# Altium footprint library IPC-7355 QFP_Shrink_Rect_50P_Side_M.PcbLib: 14 footprints
Each footprint in its own frame and in the unit in brackets; x right, y up, seen from the top. Pads: shape width x height; smd on the part's side, far side on the other; paste and mask are expansions set on the pad; w line width, h text height; cw(c..) or ccw(c..) is an arc to the next point about the centre after c.
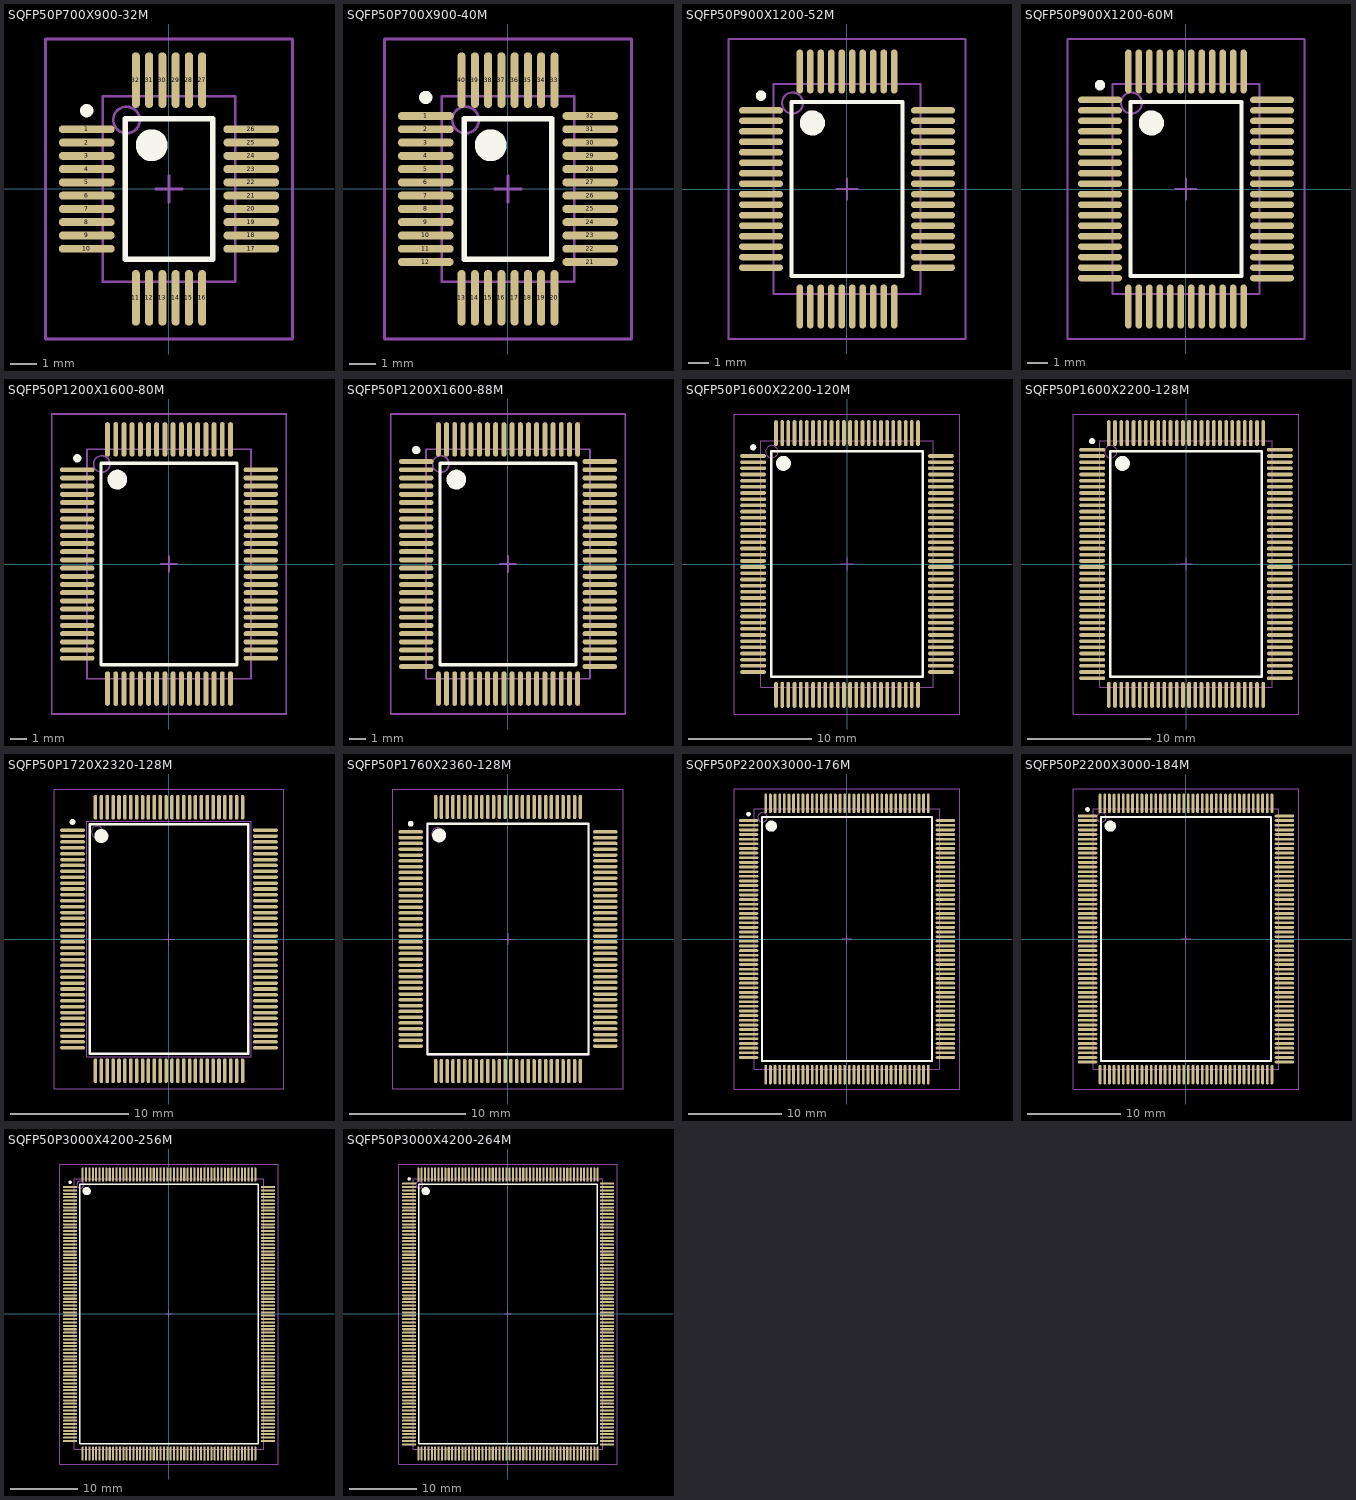
[diagram p0: the footprints below, top view; thin cyan lines are the x and y axes]

## SQFP50P700X900-32M [mm] "Shrink QFP, 32-Leads, Body 7x5 mm, Pitch 0.5mm, IPC Low Density"
height 1.7
pads (32):
  oval 2.1x0.3 smd: 1(-3.1,2.25) 2(-3.1,1.75) 3(-3.1,1.25) 4(-3.1,0.75) 5(-3.1,0.25) 6(-3.1,-0.25) 7(-3.1,-0.75) 8(-3.1,-1.25) 9(-3.1,-1.75) 10(-3.1,-2.25) 17(3.1,-2.25) 18(3.1,-1.75) 19(3.1,-1.25) 20(3.1,-0.75) 21(3.1,-0.25) 22(3.1,0.25) 23(3.1,0.75) 24(3.1,1.25) 25(3.1,1.75) 26(3.1,2.25)
  oval 0.3x2.1 smd: 11(-1.25,-4.1) 12(-0.75,-4.1) 13(-0.25,-4.1) 14(0.25,-4.1) 15(0.75,-4.1) 16(1.25,-4.1) 27(1.25,4.1) 28(0.75,4.1) 29(0.25,4.1) 30(-0.25,4.1) 31(-0.75,4.1) 32(-1.25,4.1)
Top Overlay:
  circle w0.6: c-0.65,1.65 r0.3
  circle w0.25: c-3.1,2.95 r0.125
  lines w0.2: -1.65,-2.65 1.65,-2.65 1.65,2.65 -1.65,2.65 -1.65,-2.65
Mechanical 13:
  circle w0.1: c-1.6,2.6 r0.5
  lines w0.1: -2.5,-3.5 2.5,-3.5 2.5,3.5 -2.5,3.5 -2.5,-3.5
Mechanical 15:
  lines w0.1: -0.5,0 0.5,0 ; 0,-0.5 0,0.5 ; -4.65,-5.65 4.65,-5.65 4.65,5.65 -4.65,5.65 -4.65,-5.65
3D body: height 1.7, standoff 0, extent -2.5,-3.5 2.5,3.5

## SQFP50P700X900-40M [mm] "Shrink QFP, 40-Leads, Body 7x5 mm, Pitch 0.5mm, IPC Low Density"
height 1.7
pads (40):
  oval 2.1x0.3 smd: 1(-3.1,2.75) 2(-3.1,2.25) 3(-3.1,1.75) 4(-3.1,1.25) 5(-3.1,0.75) 6(-3.1,0.25) 7(-3.1,-0.25) 8(-3.1,-0.75) 9(-3.1,-1.25) 10(-3.1,-1.75) 11(-3.1,-2.25) 12(-3.1,-2.75) 21(3.1,-2.75) 22(3.1,-2.25) 23(3.1,-1.75) 24(3.1,-1.25) 25(3.1,-0.75) 26(3.1,-0.25) 27(3.1,0.25) 28(3.1,0.75) 29(3.1,1.25) 30(3.1,1.75) 31(3.1,2.25) 32(3.1,2.75)
  oval 0.3x2.1 smd: 13(-1.75,-4.1) 14(-1.25,-4.1) 15(-0.75,-4.1) 16(-0.25,-4.1) 17(0.25,-4.1) 18(0.75,-4.1) 19(1.25,-4.1) 20(1.75,-4.1) 33(1.75,4.1) 34(1.25,4.1) 35(0.75,4.1) 36(0.25,4.1) 37(-0.25,4.1) 38(-0.75,4.1) 39(-1.25,4.1) 40(-1.75,4.1)
Top Overlay:
  circle w0.6: c-0.65,1.65 r0.3
  circle w0.25: c-3.1,3.45 r0.125
  lines w0.2: -1.65,-2.65 1.65,-2.65 1.65,2.65 -1.65,2.65 -1.65,-2.65
Mechanical 13:
  circle w0.1: c-1.6,2.6 r0.5
  lines w0.1: -2.5,-3.5 2.5,-3.5 2.5,3.5 -2.5,3.5 -2.5,-3.5
Mechanical 15:
  lines w0.1: -0.5,0 0.5,0 ; 0,-0.5 0,0.5 ; -4.65,-5.65 4.65,-5.65 4.65,5.65 -4.65,5.65 -4.65,-5.65
3D body: height 1.7, standoff 0, extent -2.5,-3.5 2.5,3.5

## SQFP50P900X1200-52M [mm] "Shrink QFP, 52-Leads, Body 10x7 mm, Pitch 0.5mm, IPC Low Density"
height 2.2
pads (52):
  oval 2.1x0.3 smd: 1(-4.1,3.75) 2(-4.1,3.25) 3(-4.1,2.75) 4(-4.1,2.25) 5(-4.1,1.75) 6(-4.1,1.25) 7(-4.1,0.75) 8(-4.1,0.25) 9(-4.1,-0.25) 10(-4.1,-0.75) 11(-4.1,-1.25) 12(-4.1,-1.75) 13(-4.1,-2.25) 14(-4.1,-2.75) 15(-4.1,-3.25) 16(-4.1,-3.75) 27(4.1,-3.75) 28(4.1,-3.25) 29(4.1,-2.75) 30(4.1,-2.25) 31(4.1,-1.75) 32(4.1,-1.25) 33(4.1,-0.75) 34(4.1,-0.25) 35(4.1,0.25) 36(4.1,0.75) 37(4.1,1.25) 38(4.1,1.75) 39(4.1,2.25) 40(4.1,2.75) 41(4.1,3.25) 42(4.1,3.75)
  oval 0.3x2.1 smd: 17(-2.25,-5.6) 18(-1.75,-5.6) 19(-1.25,-5.6) 20(-0.75,-5.6) 21(-0.25,-5.6) 22(0.25,-5.6) 23(0.75,-5.6) 24(1.25,-5.6) 25(1.75,-5.6) 26(2.25,-5.6) 43(2.25,5.6) 44(1.75,5.6) 45(1.25,5.6) 46(0.75,5.6) 47(0.25,5.6) 48(-0.25,5.6) 49(-0.75,5.6) 50(-1.25,5.6) 51(-1.75,5.6) 52(-2.25,5.6)
Top Overlay:
  circle w0.6: c-1.65,3.15 r0.3
  circle w0.25: c-4.1,4.45 r0.125
  lines w0.2: -2.65,-4.15 2.65,-4.15 2.65,4.15 -2.65,4.15 -2.65,-4.15
Mechanical 13:
  circle w0.1: c-2.6,4.1 r0.5
  lines w0.1: -3.5,-5 3.5,-5 3.5,5 -3.5,5 -3.5,-5
Mechanical 15:
  lines w0.1: -0.5,0 0.5,0 ; 0,-0.5 0,0.5 ; -5.65,-7.15 5.65,-7.15 5.65,7.15 -5.65,7.15 -5.65,-7.15
3D body: height 2.2, standoff 0, extent -3.5,-5 3.5,5

## SQFP50P900X1200-60M [mm] "Shrink QFP, 60-Leads, Body 10x7 mm, Pitch 0.5mm, IPC Low Density"
height 2.2
pads (60):
  oval 2.1x0.3 smd: 1(-4.1,4.25) 2(-4.1,3.75) 3(-4.1,3.25) 4(-4.1,2.75) 5(-4.1,2.25) 6(-4.1,1.75) 7(-4.1,1.25) 8(-4.1,0.75) 9(-4.1,0.25) 10(-4.1,-0.25) 11(-4.1,-0.75) 12(-4.1,-1.25) 13(-4.1,-1.75) 14(-4.1,-2.25) 15(-4.1,-2.75) 16(-4.1,-3.25) 17(-4.1,-3.75) 18(-4.1,-4.25) 31(4.1,-4.25) 32(4.1,-3.75) 33(4.1,-3.25) 34(4.1,-2.75) 35(4.1,-2.25) 36(4.1,-1.75) 37(4.1,-1.25) 38(4.1,-0.75) 39(4.1,-0.25) 40(4.1,0.25) 41(4.1,0.75) 42(4.1,1.25) 43(4.1,1.75) 44(4.1,2.25) 45(4.1,2.75) 46(4.1,3.25) 47(4.1,3.75) 48(4.1,4.25)
  oval 0.3x2.1 smd: 19(-2.75,-5.6) 20(-2.25,-5.6) 21(-1.75,-5.6) 22(-1.25,-5.6) 23(-0.75,-5.6) 24(-0.25,-5.6) 25(0.25,-5.6) 26(0.75,-5.6) 27(1.25,-5.6) 28(1.75,-5.6) 29(2.25,-5.6) 30(2.75,-5.6) 49(2.75,5.6) 50(2.25,5.6) 51(1.75,5.6) 52(1.25,5.6) 53(0.75,5.6) 54(0.25,5.6) 55(-0.25,5.6) 56(-0.75,5.6) 57(-1.25,5.6) 58(-1.75,5.6) 59(-2.25,5.6) 60(-2.75,5.6)
Top Overlay:
  circle w0.6: c-1.65,3.15 r0.3
  circle w0.25: c-4.1,4.95 r0.125
  lines w0.2: -2.65,-4.15 2.65,-4.15 2.65,4.15 -2.65,4.15 -2.65,-4.15
Mechanical 13:
  circle w0.1: c-2.6,4.1 r0.5
  lines w0.1: -3.5,-5 3.5,-5 3.5,5 -3.5,5 -3.5,-5
Mechanical 15:
  lines w0.1: -0.5,0 0.5,0 ; 0,-0.5 0,0.5 ; -5.65,-7.15 5.65,-7.15 5.65,7.15 -5.65,7.15 -5.65,-7.15
3D body: height 2.2, standoff 0, extent -3.5,-5 3.5,5

## SQFP50P1200X1600-80M [mm] "Shrink QFP, 80-Leads, Body 14x10 mm, Pitch 0.5mm, IPC Low Density"
height 2.2
pads (80):
  oval 2.1x0.3 smd: 1(-5.6,5.75) 2(-5.6,5.25) 3(-5.6,4.75) 4(-5.6,4.25) 5(-5.6,3.75) 6(-5.6,3.25) 7(-5.6,2.75) 8(-5.6,2.25) 9(-5.6,1.75) 10(-5.6,1.25) 11(-5.6,0.75) 12(-5.6,0.25) 13(-5.6,-0.25) 14(-5.6,-0.75) 15(-5.6,-1.25) 16(-5.6,-1.75) 17(-5.6,-2.25) 18(-5.6,-2.75) 19(-5.6,-3.25) 20(-5.6,-3.75) 21(-5.6,-4.25) 22(-5.6,-4.75) 23(-5.6,-5.25) 24(-5.6,-5.75) 41(5.6,-5.75) 42(5.6,-5.25) 43(5.6,-4.75) 44(5.6,-4.25) 45(5.6,-3.75) 46(5.6,-3.25) 47(5.6,-2.75) 48(5.6,-2.25) 49(5.6,-1.75) 50(5.6,-1.25) 51(5.6,-0.75) 52(5.6,-0.25) 53(5.6,0.25) 54(5.6,0.75) 55(5.6,1.25) 56(5.6,1.75) 57(5.6,2.25) 58(5.6,2.75) 59(5.6,3.25) 60(5.6,3.75) 61(5.6,4.25) 62(5.6,4.75) 63(5.6,5.25) 64(5.6,5.75)
  oval 0.3x2.1 smd: 25(-3.75,-7.6) 26(-3.25,-7.6) 27(-2.75,-7.6) 28(-2.25,-7.6) 29(-1.75,-7.6) 30(-1.25,-7.6) 31(-0.75,-7.6) 32(-0.25,-7.6) 33(0.25,-7.6) 34(0.75,-7.6) 35(1.25,-7.6) 36(1.75,-7.6) 37(2.25,-7.6) 38(2.75,-7.6) 39(3.25,-7.6) 40(3.75,-7.6) 65(3.75,7.6) 66(3.25,7.6) 67(2.75,7.6) 68(2.25,7.6) 69(1.75,7.6) 70(1.25,7.6) 71(0.75,7.6) 72(0.25,7.6) 73(-0.25,7.6) 74(-0.75,7.6) 75(-1.25,7.6) 76(-1.75,7.6) 77(-2.25,7.6) 78(-2.75,7.6) 79(-3.25,7.6) 80(-3.75,7.6)
Top Overlay:
  circle w0.6: c-3.15,5.15 r0.3
  circle w0.25: c-5.6,6.45 r0.125
  lines w0.2: -4.15,-6.15 4.15,-6.15 4.15,6.15 -4.15,6.15 -4.15,-6.15
Mechanical 13:
  circle w0.1: c-4.1,6.1 r0.5
  lines w0.1: -5,-7 5,-7 5,7 -5,7 -5,-7
Mechanical 15:
  lines w0.1: -0.5,0 0.5,0 ; 0,-0.5 0,0.5 ; -7.15,-9.15 7.15,-9.15 7.15,9.15 -7.15,9.15 -7.15,-9.15
3D body: height 2.2, standoff 0, extent -5,-7 5,7

## SQFP50P1200X1600-88M [mm] "Shrink QFP, 88-Leads, Body 14x10 mm, Pitch 0.5mm, IPC Low Density"
height 2.2
pads (88):
  oval 2.1x0.3 smd: 1(-5.6,6.25) 2(-5.6,5.75) 3(-5.6,5.25) 4(-5.6,4.75) 5(-5.6,4.25) 6(-5.6,3.75) 7(-5.6,3.25) 8(-5.6,2.75) 9(-5.6,2.25) 10(-5.6,1.75) 11(-5.6,1.25) 12(-5.6,0.75) 13(-5.6,0.25) 14(-5.6,-0.25) 15(-5.6,-0.75) 16(-5.6,-1.25) 17(-5.6,-1.75) 18(-5.6,-2.25) 19(-5.6,-2.75) 20(-5.6,-3.25) 21(-5.6,-3.75) 22(-5.6,-4.25) 23(-5.6,-4.75) 24(-5.6,-5.25) 25(-5.6,-5.75) 26(-5.6,-6.25) 45(5.6,-6.25) 46(5.6,-5.75) 47(5.6,-5.25) 48(5.6,-4.75) 49(5.6,-4.25) 50(5.6,-3.75) 51(5.6,-3.25) 52(5.6,-2.75) 53(5.6,-2.25) 54(5.6,-1.75) 55(5.6,-1.25) 56(5.6,-0.75) 57(5.6,-0.25) 58(5.6,0.25) 59(5.6,0.75) 60(5.6,1.25) 61(5.6,1.75) 62(5.6,2.25) 63(5.6,2.75) 64(5.6,3.25) 65(5.6,3.75) 66(5.6,4.25) 67(5.6,4.75) 68(5.6,5.25) 69(5.6,5.75) 70(5.6,6.25)
  oval 0.3x2.1 smd: 27(-4.25,-7.6) 28(-3.75,-7.6) 29(-3.25,-7.6) 30(-2.75,-7.6) 31(-2.25,-7.6) 32(-1.75,-7.6) 33(-1.25,-7.6) 34(-0.75,-7.6) 35(-0.25,-7.6) 36(0.25,-7.6) 37(0.75,-7.6) 38(1.25,-7.6) 39(1.75,-7.6) 40(2.25,-7.6) 41(2.75,-7.6) 42(3.25,-7.6) 43(3.75,-7.6) 44(4.25,-7.6) 71(4.25,7.6) 72(3.75,7.6) 73(3.25,7.6) 74(2.75,7.6) 75(2.25,7.6) 76(1.75,7.6) 77(1.25,7.6) 78(0.75,7.6) 79(0.25,7.6) 80(-0.25,7.6) 81(-0.75,7.6) 82(-1.25,7.6) 83(-1.75,7.6) 84(-2.25,7.6) 85(-2.75,7.6) 86(-3.25,7.6) 87(-3.75,7.6) 88(-4.25,7.6)
Top Overlay:
  circle w0.6: c-3.15,5.15 r0.3
  circle w0.25: c-5.6,6.95 r0.125
  lines w0.2: -4.15,-6.15 4.15,-6.15 4.15,6.15 -4.15,6.15 -4.15,-6.15
Mechanical 13:
  circle w0.1: c-4.1,6.1 r0.5
  lines w0.1: -5,-7 5,-7 5,7 -5,7 -5,-7
Mechanical 15:
  lines w0.1: -0.5,0 0.5,0 ; 0,-0.5 0,0.5 ; -7.15,-9.15 7.15,-9.15 7.15,9.15 -7.15,9.15 -7.15,-9.15
3D body: height 2.2, standoff 0, extent -5,-7 5,7

## SQFP50P1600X2200-120M [mm] "Shrink QFP, 120-Leads, Body 20x14 mm, Pitch 0.5mm, IPC Low Density"
height 2.2
pads (120):
  oval 2.1x0.3 smd: 1(-7.6,8.75) 2(-7.6,8.25) 3(-7.6,7.75) 4(-7.6,7.25) 5(-7.6,6.75) 6(-7.6,6.25) 7(-7.6,5.75) 8(-7.6,5.25) 9(-7.6,4.75) 10(-7.6,4.25) 11(-7.6,3.75) 12(-7.6,3.25) 13(-7.6,2.75) 14(-7.6,2.25) 15(-7.6,1.75) 16(-7.6,1.25) 17(-7.6,0.75) 18(-7.6,0.25) 19(-7.6,-0.25) 20(-7.6,-0.75) 21(-7.6,-1.25) 22(-7.6,-1.75) 23(-7.6,-2.25) 24(-7.6,-2.75) 25(-7.6,-3.25) 26(-7.6,-3.75) 27(-7.6,-4.25) 28(-7.6,-4.75) 29(-7.6,-5.25) 30(-7.6,-5.75) 31(-7.6,-6.25) 32(-7.6,-6.75) 33(-7.6,-7.25) 34(-7.6,-7.75) 35(-7.6,-8.25) 36(-7.6,-8.75) 61(7.6,-8.75) 62(7.6,-8.25) 63(7.6,-7.75) 64(7.6,-7.25) 65(7.6,-6.75) 66(7.6,-6.25) 67(7.6,-5.75) 68(7.6,-5.25) 69(7.6,-4.75) 70(7.6,-4.25) 71(7.6,-3.75) 72(7.6,-3.25) 73(7.6,-2.75) 74(7.6,-2.25) 75(7.6,-1.75) 76(7.6,-1.25) 77(7.6,-0.75) 78(7.6,-0.25) 79(7.6,0.25) 80(7.6,0.75) 81(7.6,1.25) 82(7.6,1.75) 83(7.6,2.25) 84(7.6,2.75) 85(7.6,3.25) 86(7.6,3.75) 87(7.6,4.25) 88(7.6,4.75) 89(7.6,5.25) 90(7.6,5.75) 91(7.6,6.25) 92(7.6,6.75) 93(7.6,7.25) 94(7.6,7.75) 95(7.6,8.25) 96(7.6,8.75)
  oval 0.3x2.1 smd: 37(-5.75,-10.6) 38(-5.25,-10.6) 39(-4.75,-10.6) 40(-4.25,-10.6) 41(-3.75,-10.6) 42(-3.25,-10.6) 43(-2.75,-10.6) 44(-2.25,-10.6) 45(-1.75,-10.6) 46(-1.25,-10.6) 47(-0.75,-10.6) 48(-0.25,-10.6) 49(0.25,-10.6) 50(0.75,-10.6) 51(1.25,-10.6) 52(1.75,-10.6) 53(2.25,-10.6) 54(2.75,-10.6) 55(3.25,-10.6) 56(3.75,-10.6) 57(4.25,-10.6) 58(4.75,-10.6) 59(5.25,-10.6) 60(5.75,-10.6) 97(5.75,10.6) 98(5.25,10.6) 99(4.75,10.6) 100(4.25,10.6) 101(3.75,10.6) 102(3.25,10.6) 103(2.75,10.6) 104(2.25,10.6) 105(1.75,10.6) 106(1.25,10.6) 107(0.75,10.6) 108(0.25,10.6) 109(-0.25,10.6) 110(-0.75,10.6) 111(-1.25,10.6) 112(-1.75,10.6) 113(-2.25,10.6) 114(-2.75,10.6) 115(-3.25,10.6) 116(-3.75,10.6) 117(-4.25,10.6) 118(-4.75,10.6) 119(-5.25,10.6) 120(-5.75,10.6)
Top Overlay:
  circle w0.6: c-5.15,8.15 r0.3
  circle w0.25: c-7.6,9.45 r0.125
  lines w0.2: -6.15,-9.15 6.15,-9.15 6.15,9.15 -6.15,9.15 -6.15,-9.15
Mechanical 13:
  circle w0.1: c-6.1,9.1 r0.5
  lines w0.1: -7,-10 7,-10 7,10 -7,10 -7,-10
Mechanical 15:
  lines w0.1: -0.5,0 0.5,0 ; 0,-0.5 0,0.5 ; -9.15,-12.15 9.15,-12.15 9.15,12.15 -9.15,12.15 -9.15,-12.15
3D body: height 2.2, standoff 0, extent -7,-10 7,10

## SQFP50P1600X2200-128M [mm] "Shrink QFP, 128-Leads, Body 20x14 mm, Pitch 0.5mm, IPC Low Density"
height 2.2
pads (128):
  oval 2.1x0.3 smd: 1(-7.6,9.25) 2(-7.6,8.75) 3(-7.6,8.25) 4(-7.6,7.75) 5(-7.6,7.25) 6(-7.6,6.75) 7(-7.6,6.25) 8(-7.6,5.75) 9(-7.6,5.25) 10(-7.6,4.75) 11(-7.6,4.25) 12(-7.6,3.75) 13(-7.6,3.25) 14(-7.6,2.75) 15(-7.6,2.25) 16(-7.6,1.75) 17(-7.6,1.25) 18(-7.6,0.75) 19(-7.6,0.25) 20(-7.6,-0.25) 21(-7.6,-0.75) 22(-7.6,-1.25) 23(-7.6,-1.75) 24(-7.6,-2.25) 25(-7.6,-2.75) 26(-7.6,-3.25) 27(-7.6,-3.75) 28(-7.6,-4.25) 29(-7.6,-4.75) 30(-7.6,-5.25) 31(-7.6,-5.75) 32(-7.6,-6.25) 33(-7.6,-6.75) 34(-7.6,-7.25) 35(-7.6,-7.75) 36(-7.6,-8.25) 37(-7.6,-8.75) 38(-7.6,-9.25) 65(7.6,-9.25) 66(7.6,-8.75) 67(7.6,-8.25) 68(7.6,-7.75) 69(7.6,-7.25) 70(7.6,-6.75) 71(7.6,-6.25) 72(7.6,-5.75) 73(7.6,-5.25) 74(7.6,-4.75) 75(7.6,-4.25) 76(7.6,-3.75) 77(7.6,-3.25) 78(7.6,-2.75) 79(7.6,-2.25) 80(7.6,-1.75) 81(7.6,-1.25) 82(7.6,-0.75) 83(7.6,-0.25) 84(7.6,0.25) 85(7.6,0.75) 86(7.6,1.25) 87(7.6,1.75) 88(7.6,2.25) 89(7.6,2.75) 90(7.6,3.25) 91(7.6,3.75) 92(7.6,4.25) 93(7.6,4.75) 94(7.6,5.25) 95(7.6,5.75) 96(7.6,6.25) 97(7.6,6.75) 98(7.6,7.25) 99(7.6,7.75) 100(7.6,8.25) 101(7.6,8.75) 102(7.6,9.25)
  oval 0.3x2.1 smd: 39(-6.25,-10.6) 40(-5.75,-10.6) 41(-5.25,-10.6) 42(-4.75,-10.6) 43(-4.25,-10.6) 44(-3.75,-10.6) 45(-3.25,-10.6) 46(-2.75,-10.6) 47(-2.25,-10.6) 48(-1.75,-10.6) 49(-1.25,-10.6) 50(-0.75,-10.6) 51(-0.25,-10.6) 52(0.25,-10.6) 53(0.75,-10.6) 54(1.25,-10.6) 55(1.75,-10.6) 56(2.25,-10.6) 57(2.75,-10.6) 58(3.25,-10.6) 59(3.75,-10.6) 60(4.25,-10.6) 61(4.75,-10.6) 62(5.25,-10.6) 63(5.75,-10.6) 64(6.25,-10.6) 103(6.25,10.6) 104(5.75,10.6) 105(5.25,10.6) 106(4.75,10.6) 107(4.25,10.6) 108(3.75,10.6) 109(3.25,10.6) 110(2.75,10.6) 111(2.25,10.6) 112(1.75,10.6) 113(1.25,10.6) 114(0.75,10.6) 115(0.25,10.6) 116(-0.25,10.6) 117(-0.75,10.6) 118(-1.25,10.6) 119(-1.75,10.6) 120(-2.25,10.6) 121(-2.75,10.6) 122(-3.25,10.6) 123(-3.75,10.6) 124(-4.25,10.6) 125(-4.75,10.6) 126(-5.25,10.6) 127(-5.75,10.6) 128(-6.25,10.6)
Top Overlay:
  circle w0.6: c-5.15,8.15 r0.3
  circle w0.25: c-7.6,9.95 r0.125
  lines w0.2: -6.15,-9.15 6.15,-9.15 6.15,9.15 -6.15,9.15 -6.15,-9.15
Mechanical 13:
  circle w0.1: c-6.1,9.1 r0.5
  lines w0.1: -7,-10 7,-10 7,10 -7,10 -7,-10
Mechanical 15:
  lines w0.1: -0.5,0 0.5,0 ; 0,-0.5 0,0.5 ; -9.15,-12.15 9.15,-12.15 9.15,12.15 -9.15,12.15 -9.15,-12.15
3D body: height 2.2, standoff 0, extent -7,-10 7,10

## SQFP50P1720X2320-128M [mm] "Shrink QFP, 128-Leads, Body 20x14 mm, Pitch 0.5mm, IPC Low Density"
height 3
pads (128):
  oval 2.1x0.3 smd: 1(-8.2,9.25) 2(-8.2,8.75) 3(-8.2,8.25) 4(-8.2,7.75) 5(-8.2,7.25) 6(-8.2,6.75) 7(-8.2,6.25) 8(-8.2,5.75) 9(-8.2,5.25) 10(-8.2,4.75) 11(-8.2,4.25) 12(-8.2,3.75) 13(-8.2,3.25) 14(-8.2,2.75) 15(-8.2,2.25) 16(-8.2,1.75) 17(-8.2,1.25) 18(-8.2,0.75) 19(-8.2,0.25) 20(-8.2,-0.25) 21(-8.2,-0.75) 22(-8.2,-1.25) 23(-8.2,-1.75) 24(-8.2,-2.25) 25(-8.2,-2.75) 26(-8.2,-3.25) 27(-8.2,-3.75) 28(-8.2,-4.25) 29(-8.2,-4.75) 30(-8.2,-5.25) 31(-8.2,-5.75) 32(-8.2,-6.25) 33(-8.2,-6.75) 34(-8.2,-7.25) 35(-8.2,-7.75) 36(-8.2,-8.25) 37(-8.2,-8.75) 38(-8.2,-9.25) 65(8.2,-9.25) 66(8.2,-8.75) 67(8.2,-8.25) 68(8.2,-7.75) 69(8.2,-7.25) 70(8.2,-6.75) 71(8.2,-6.25) 72(8.2,-5.75) 73(8.2,-5.25) 74(8.2,-4.75) 75(8.2,-4.25) 76(8.2,-3.75) 77(8.2,-3.25) 78(8.2,-2.75) 79(8.2,-2.25) 80(8.2,-1.75) 81(8.2,-1.25) 82(8.2,-0.75) 83(8.2,-0.25) 84(8.2,0.25) 85(8.2,0.75) 86(8.2,1.25) 87(8.2,1.75) 88(8.2,2.25) 89(8.2,2.75) 90(8.2,3.25) 91(8.2,3.75) 92(8.2,4.25) 93(8.2,4.75) 94(8.2,5.25) 95(8.2,5.75) 96(8.2,6.25) 97(8.2,6.75) 98(8.2,7.25) 99(8.2,7.75) 100(8.2,8.25) 101(8.2,8.75) 102(8.2,9.25)
  oval 0.3x2.1 smd: 39(-6.25,-11.2) 40(-5.75,-11.2) 41(-5.25,-11.2) 42(-4.75,-11.2) 43(-4.25,-11.2) 44(-3.75,-11.2) 45(-3.25,-11.2) 46(-2.75,-11.2) 47(-2.25,-11.2) 48(-1.75,-11.2) 49(-1.25,-11.2) 50(-0.75,-11.2) 51(-0.25,-11.2) 52(0.25,-11.2) 53(0.75,-11.2) 54(1.25,-11.2) 55(1.75,-11.2) 56(2.25,-11.2) 57(2.75,-11.2) 58(3.25,-11.2) 59(3.75,-11.2) 60(4.25,-11.2) 61(4.75,-11.2) 62(5.25,-11.2) 63(5.75,-11.2) 64(6.25,-11.2) 103(6.25,11.2) 104(5.75,11.2) 105(5.25,11.2) 106(4.75,11.2) 107(4.25,11.2) 108(3.75,11.2) 109(3.25,11.2) 110(2.75,11.2) 111(2.25,11.2) 112(1.75,11.2) 113(1.25,11.2) 114(0.75,11.2) 115(0.25,11.2) 116(-0.25,11.2) 117(-0.75,11.2) 118(-1.25,11.2) 119(-1.75,11.2) 120(-2.25,11.2) 121(-2.75,11.2) 122(-3.25,11.2) 123(-3.75,11.2) 124(-4.25,11.2) 125(-4.75,11.2) 126(-5.25,11.2) 127(-5.75,11.2) 128(-6.25,11.2)
Top Overlay:
  circle w0.6: c-5.75,8.75 r0.3
  circle w0.25: c-8.2,9.95 r0.125
  lines w0.2: -6.75,-9.75 6.75,-9.75 6.75,9.75 -6.75,9.75 -6.75,-9.75
Mechanical 13:
  circle w0.1: c-6.1,9.1 r0.5
  lines w0.1: -7,-10 7,-10 7,10 -7,10 -7,-10
Mechanical 15:
  lines w0.1: -0.5,0 0.5,0 ; 0,-0.5 0,0.5 ; -9.75,-12.75 9.75,-12.75 9.75,12.75 -9.75,12.75 -9.75,-12.75
3D body: height 3, standoff 0, extent -7,-10 7,10

## SQFP50P1760X2360-128M [mm] "Shrink QFP, 128-Leads, Body 20x14 mm, Pitch 0.5mm, IPC Low Density"
height 2.7
pads (128):
  oval 2.1x0.3 smd: 1(-8.4,9.25) 2(-8.4,8.75) 3(-8.4,8.25) 4(-8.4,7.75) 5(-8.4,7.25) 6(-8.4,6.75) 7(-8.4,6.25) 8(-8.4,5.75) 9(-8.4,5.25) 10(-8.4,4.75) 11(-8.4,4.25) 12(-8.4,3.75) 13(-8.4,3.25) 14(-8.4,2.75) 15(-8.4,2.25) 16(-8.4,1.75) 17(-8.4,1.25) 18(-8.4,0.75) 19(-8.4,0.25) 20(-8.4,-0.25) 21(-8.4,-0.75) 22(-8.4,-1.25) 23(-8.4,-1.75) 24(-8.4,-2.25) 25(-8.4,-2.75) 26(-8.4,-3.25) 27(-8.4,-3.75) 28(-8.4,-4.25) 29(-8.4,-4.75) 30(-8.4,-5.25) 31(-8.4,-5.75) 32(-8.4,-6.25) 33(-8.4,-6.75) 34(-8.4,-7.25) 35(-8.4,-7.75) 36(-8.4,-8.25) 37(-8.4,-8.75) 38(-8.4,-9.25) 65(8.4,-9.25) 66(8.4,-8.75) 67(8.4,-8.25) 68(8.4,-7.75) 69(8.4,-7.25) 70(8.4,-6.75) 71(8.4,-6.25) 72(8.4,-5.75) 73(8.4,-5.25) 74(8.4,-4.75) 75(8.4,-4.25) 76(8.4,-3.75) 77(8.4,-3.25) 78(8.4,-2.75) 79(8.4,-2.25) 80(8.4,-1.75) 81(8.4,-1.25) 82(8.4,-0.75) 83(8.4,-0.25) 84(8.4,0.25) 85(8.4,0.75) 86(8.4,1.25) 87(8.4,1.75) 88(8.4,2.25) 89(8.4,2.75) 90(8.4,3.25) 91(8.4,3.75) 92(8.4,4.25) 93(8.4,4.75) 94(8.4,5.25) 95(8.4,5.75) 96(8.4,6.25) 97(8.4,6.75) 98(8.4,7.25) 99(8.4,7.75) 100(8.4,8.25) 101(8.4,8.75) 102(8.4,9.25)
  oval 0.3x2.1 smd: 39(-6.25,-11.4) 40(-5.75,-11.4) 41(-5.25,-11.4) 42(-4.75,-11.4) 43(-4.25,-11.4) 44(-3.75,-11.4) 45(-3.25,-11.4) 46(-2.75,-11.4) 47(-2.25,-11.4) 48(-1.75,-11.4) 49(-1.25,-11.4) 50(-0.75,-11.4) 51(-0.25,-11.4) 52(0.25,-11.4) 53(0.75,-11.4) 54(1.25,-11.4) 55(1.75,-11.4) 56(2.25,-11.4) 57(2.75,-11.4) 58(3.25,-11.4) 59(3.75,-11.4) 60(4.25,-11.4) 61(4.75,-11.4) 62(5.25,-11.4) 63(5.75,-11.4) 64(6.25,-11.4) 103(6.25,11.4) 104(5.75,11.4) 105(5.25,11.4) 106(4.75,11.4) 107(4.25,11.4) 108(3.75,11.4) 109(3.25,11.4) 110(2.75,11.4) 111(2.25,11.4) 112(1.75,11.4) 113(1.25,11.4) 114(0.75,11.4) 115(0.25,11.4) 116(-0.25,11.4) 117(-0.75,11.4) 118(-1.25,11.4) 119(-1.75,11.4) 120(-2.25,11.4) 121(-2.75,11.4) 122(-3.25,11.4) 123(-3.75,11.4) 124(-4.25,11.4) 125(-4.75,11.4) 126(-5.25,11.4) 127(-5.75,11.4) 128(-6.25,11.4)
Top Overlay:
  circle w0.6: c-5.95,8.95 r0.3
  circle w0.25: c-8.4,9.95 r0.125
  lines w0.2: -6.95,-9.95 6.95,-9.95 6.95,9.95 -6.95,9.95 -6.95,-9.95
Mechanical 13:
  circle w0.1: c-6.1,9.1 r0.5
  lines w0.1: -7,-10 7,-10 7,10 -7,10 -7,-10
Mechanical 15:
  lines w0.1: -0.5,0 0.5,0 ; 0,-0.5 0,0.5 ; -9.95,-12.95 9.95,-12.95 9.95,12.95 -9.95,12.95 -9.95,-12.95
3D body: height 2.7, standoff 0, extent -7,-10 7,10

## SQFP50P2200X3000-176M [mm] "Shrink QFP, 176-Leads, Body 28x20 mm, Pitch 0.5mm, IPC Low Density"
height 3.75
pads (176):
  oval 2.1x0.3 smd: 1(-10.6,12.75) 2(-10.6,12.25) 3(-10.6,11.75) 4(-10.6,11.25) 5(-10.6,10.75) 6(-10.6,10.25) 7(-10.6,9.75) 8(-10.6,9.25) 9(-10.6,8.75) 10(-10.6,8.25) 11(-10.6,7.75) 12(-10.6,7.25) 13(-10.6,6.75) 14(-10.6,6.25) 15(-10.6,5.75) 16(-10.6,5.25) 17(-10.6,4.75) 18(-10.6,4.25) 19(-10.6,3.75) 20(-10.6,3.25) 21(-10.6,2.75) 22(-10.6,2.25) 23(-10.6,1.75) 24(-10.6,1.25) 25(-10.6,0.75) 26(-10.6,0.25) 27(-10.6,-0.25) 28(-10.6,-0.75) 29(-10.6,-1.25) 30(-10.6,-1.75) 31(-10.6,-2.25) 32(-10.6,-2.75) 33(-10.6,-3.25) 34(-10.6,-3.75) 35(-10.6,-4.25) 36(-10.6,-4.75) 37(-10.6,-5.25) 38(-10.6,-5.75) 39(-10.6,-6.25) 40(-10.6,-6.75) 41(-10.6,-7.25) 42(-10.6,-7.75) 43(-10.6,-8.25) 44(-10.6,-8.75) 45(-10.6,-9.25) 46(-10.6,-9.75) 47(-10.6,-10.25) 48(-10.6,-10.75) 49(-10.6,-11.25) 50(-10.6,-11.75) 51(-10.6,-12.25) 52(-10.6,-12.75) 89(10.6,-12.75) 90(10.6,-12.25) 91(10.6,-11.75) 92(10.6,-11.25) 93(10.6,-10.75) 94(10.6,-10.25) 95(10.6,-9.75) 96(10.6,-9.25) 97(10.6,-8.75) 98(10.6,-8.25) 99(10.6,-7.75) 100(10.6,-7.25) 101(10.6,-6.75) 102(10.6,-6.25) 103(10.6,-5.75) 104(10.6,-5.25) 105(10.6,-4.75) 106(10.6,-4.25) 107(10.6,-3.75) 108(10.6,-3.25) 109(10.6,-2.75) 110(10.6,-2.25) 111(10.6,-1.75) 112(10.6,-1.25) 113(10.6,-0.75) 114(10.6,-0.25) 115(10.6,0.25) 116(10.6,0.75) 117(10.6,1.25) 118(10.6,1.75) 119(10.6,2.25) 120(10.6,2.75) 121(10.6,3.25) 122(10.6,3.75) 123(10.6,4.25) 124(10.6,4.75) 125(10.6,5.25) 126(10.6,5.75) 127(10.6,6.25) 128(10.6,6.75) 129(10.6,7.25) 130(10.6,7.75) 131(10.6,8.25) 132(10.6,8.75) 133(10.6,9.25) 134(10.6,9.75) 135(10.6,10.25) 136(10.6,10.75) 137(10.6,11.25) 138(10.6,11.75) 139(10.6,12.25) 140(10.6,12.75)
  oval 0.3x2.1 smd: 53(-8.75,-14.6) 54(-8.25,-14.6) 55(-7.75,-14.6) 56(-7.25,-14.6) 57(-6.75,-14.6) 58(-6.25,-14.6) 59(-5.75,-14.6) 60(-5.25,-14.6) 61(-4.75,-14.6) 62(-4.25,-14.6) 63(-3.75,-14.6) 64(-3.25,-14.6) 65(-2.75,-14.6) 66(-2.25,-14.6) 67(-1.75,-14.6) 68(-1.25,-14.6) 69(-0.75,-14.6) 70(-0.25,-14.6) 71(0.25,-14.6) 72(0.75,-14.6) 73(1.25,-14.6) 74(1.75,-14.6) 75(2.25,-14.6) 76(2.75,-14.6) 77(3.25,-14.6) 78(3.75,-14.6) 79(4.25,-14.6) 80(4.75,-14.6) 81(5.25,-14.6) 82(5.75,-14.6) 83(6.25,-14.6) 84(6.75,-14.6) 85(7.25,-14.6) 86(7.75,-14.6) 87(8.25,-14.6) 88(8.75,-14.6) 141(8.75,14.6) 142(8.25,14.6) 143(7.75,14.6) 144(7.25,14.6) 145(6.75,14.6) 146(6.25,14.6) 147(5.75,14.6) 148(5.25,14.6) 149(4.75,14.6) 150(4.25,14.6) 151(3.75,14.6) 152(3.25,14.6) 153(2.75,14.6) 154(2.25,14.6) 155(1.75,14.6) 156(1.25,14.6) 157(0.75,14.6) 158(0.25,14.6) 159(-0.25,14.6) 160(-0.75,14.6) 161(-1.25,14.6) 162(-1.75,14.6) 163(-2.25,14.6) 164(-2.75,14.6) 165(-3.25,14.6) 166(-3.75,14.6) 167(-4.25,14.6) 168(-4.75,14.6) 169(-5.25,14.6) 170(-5.75,14.6) 171(-6.25,14.6) 172(-6.75,14.6) 173(-7.25,14.6) 174(-7.75,14.6) 175(-8.25,14.6) 176(-8.75,14.6)
Top Overlay:
  circle w0.6: c-8.15,12.15 r0.3
  circle w0.25: c-10.6,13.45 r0.125
  lines w0.2: -9.15,-13.15 9.15,-13.15 9.15,13.15 -9.15,13.15 -9.15,-13.15
Mechanical 13:
  circle w0.1: c-9.1,13.1 r0.5
  lines w0.1: -10,-14 10,-14 10,14 -10,14 -10,-14
Mechanical 15:
  lines w0.1: -0.5,0 0.5,0 ; 0,-0.5 0,0.5 ; -12.15,-16.15 12.15,-16.15 12.15,16.15 -12.15,16.15 -12.15,-16.15
3D body: height 3.75, standoff 0, extent -10,-14 10,14

## SQFP50P2200X3000-184M [mm] "Shrink QFP, 184-Leads, Body 28x20 mm, Pitch 0.5mm, IPC Low Density"
height 3.75
pads (184):
  oval 2.1x0.3 smd: 1(-10.6,13.25) 2(-10.6,12.75) 3(-10.6,12.25) 4(-10.6,11.75) 5(-10.6,11.25) 6(-10.6,10.75) 7(-10.6,10.25) 8(-10.6,9.75) 9(-10.6,9.25) 10(-10.6,8.75) 11(-10.6,8.25) 12(-10.6,7.75) 13(-10.6,7.25) 14(-10.6,6.75) 15(-10.6,6.25) 16(-10.6,5.75) 17(-10.6,5.25) 18(-10.6,4.75) 19(-10.6,4.25) 20(-10.6,3.75) 21(-10.6,3.25) 22(-10.6,2.75) 23(-10.6,2.25) 24(-10.6,1.75) 25(-10.6,1.25) 26(-10.6,0.75) 27(-10.6,0.25) 28(-10.6,-0.25) 29(-10.6,-0.75) 30(-10.6,-1.25) 31(-10.6,-1.75) 32(-10.6,-2.25) 33(-10.6,-2.75) 34(-10.6,-3.25) 35(-10.6,-3.75) 36(-10.6,-4.25) 37(-10.6,-4.75) 38(-10.6,-5.25) 39(-10.6,-5.75) 40(-10.6,-6.25) 41(-10.6,-6.75) 42(-10.6,-7.25) 43(-10.6,-7.75) 44(-10.6,-8.25) 45(-10.6,-8.75) 46(-10.6,-9.25) 47(-10.6,-9.75) 48(-10.6,-10.25) 49(-10.6,-10.75) 50(-10.6,-11.25) 51(-10.6,-11.75) 52(-10.6,-12.25) 53(-10.6,-12.75) 54(-10.6,-13.25) 93(10.6,-13.25) 94(10.6,-12.75) 95(10.6,-12.25) 96(10.6,-11.75) 97(10.6,-11.25) 98(10.6,-10.75) 99(10.6,-10.25) 100(10.6,-9.75) 101(10.6,-9.25) 102(10.6,-8.75) 103(10.6,-8.25) 104(10.6,-7.75) 105(10.6,-7.25) 106(10.6,-6.75) 107(10.6,-6.25) 108(10.6,-5.75) 109(10.6,-5.25) 110(10.6,-4.75) 111(10.6,-4.25) 112(10.6,-3.75) 113(10.6,-3.25) 114(10.6,-2.75) 115(10.6,-2.25) 116(10.6,-1.75) 117(10.6,-1.25) 118(10.6,-0.75) 119(10.6,-0.25) 120(10.6,0.25) 121(10.6,0.75) 122(10.6,1.25) 123(10.6,1.75) 124(10.6,2.25) 125(10.6,2.75) 126(10.6,3.25) 127(10.6,3.75) 128(10.6,4.25) 129(10.6,4.75) 130(10.6,5.25) 131(10.6,5.75) 132(10.6,6.25) 133(10.6,6.75) 134(10.6,7.25) 135(10.6,7.75) 136(10.6,8.25) 137(10.6,8.75) 138(10.6,9.25) 139(10.6,9.75) 140(10.6,10.25) 141(10.6,10.75) 142(10.6,11.25) 143(10.6,11.75) 144(10.6,12.25) 145(10.6,12.75) 146(10.6,13.25)
  oval 0.3x2.1 smd: 55(-9.25,-14.6) 56(-8.75,-14.6) 57(-8.25,-14.6) 58(-7.75,-14.6) 59(-7.25,-14.6) 60(-6.75,-14.6) 61(-6.25,-14.6) 62(-5.75,-14.6) 63(-5.25,-14.6) 64(-4.75,-14.6) 65(-4.25,-14.6) 66(-3.75,-14.6) 67(-3.25,-14.6) 68(-2.75,-14.6) 69(-2.25,-14.6) 70(-1.75,-14.6) 71(-1.25,-14.6) 72(-0.75,-14.6) 73(-0.25,-14.6) 74(0.25,-14.6) 75(0.75,-14.6) 76(1.25,-14.6) 77(1.75,-14.6) 78(2.25,-14.6) 79(2.75,-14.6) 80(3.25,-14.6) 81(3.75,-14.6) 82(4.25,-14.6) 83(4.75,-14.6) 84(5.25,-14.6) 85(5.75,-14.6) 86(6.25,-14.6) 87(6.75,-14.6) 88(7.25,-14.6) 89(7.75,-14.6) 90(8.25,-14.6) 91(8.75,-14.6) 92(9.25,-14.6) 147(9.25,14.6) 148(8.75,14.6) 149(8.25,14.6) 150(7.75,14.6) 151(7.25,14.6) 152(6.75,14.6) 153(6.25,14.6) 154(5.75,14.6) 155(5.25,14.6) 156(4.75,14.6) 157(4.25,14.6) 158(3.75,14.6) 159(3.25,14.6) 160(2.75,14.6) 161(2.25,14.6) 162(1.75,14.6) 163(1.25,14.6) 164(0.75,14.6) 165(0.25,14.6) 166(-0.25,14.6) 167(-0.75,14.6) 168(-1.25,14.6) 169(-1.75,14.6) 170(-2.25,14.6) 171(-2.75,14.6) 172(-3.25,14.6) 173(-3.75,14.6) 174(-4.25,14.6) 175(-4.75,14.6) 176(-5.25,14.6) 177(-5.75,14.6) 178(-6.25,14.6) 179(-6.75,14.6) 180(-7.25,14.6) 181(-7.75,14.6) 182(-8.25,14.6) 183(-8.75,14.6) 184(-9.25,14.6)
Top Overlay:
  circle w0.6: c-8.15,12.15 r0.3
  circle w0.25: c-10.6,13.95 r0.125
  lines w0.2: -9.15,-13.15 9.15,-13.15 9.15,13.15 -9.15,13.15 -9.15,-13.15
Mechanical 13:
  circle w0.1: c-9.1,13.1 r0.5
  lines w0.1: -10,-14 10,-14 10,14 -10,14 -10,-14
Mechanical 15:
  lines w0.1: -0.5,0 0.5,0 ; 0,-0.5 0,0.5 ; -12.15,-16.15 12.15,-16.15 12.15,16.15 -12.15,16.15 -12.15,-16.15
3D body: height 3.75, standoff 0, extent -10,-14 10,14

## SQFP50P3000X4200-256M [mm] "Shrink QFP, 256-Leads, Body 40x28 mm, Pitch 0.5mm, IPC Low Density"
height 4.2
pads (256):
  oval 2.1x0.3 smd: 1(-14.6,18.75) 2(-14.6,18.25) 3(-14.6,17.75) 4(-14.6,17.25) 5(-14.6,16.75) 6(-14.6,16.25) 7(-14.6,15.75) 8(-14.6,15.25) 9(-14.6,14.75) 10(-14.6,14.25) 11(-14.6,13.75) 12(-14.6,13.25) 13(-14.6,12.75) 14(-14.6,12.25) 15(-14.6,11.75) 16(-14.6,11.25) 17(-14.6,10.75) 18(-14.6,10.25) 19(-14.6,9.75) 20(-14.6,9.25) 21(-14.6,8.75) 22(-14.6,8.25) 23(-14.6,7.75) 24(-14.6,7.25) 25(-14.6,6.75) 26(-14.6,6.25) 27(-14.6,5.75) 28(-14.6,5.25) 29(-14.6,4.75) 30(-14.6,4.25) 31(-14.6,3.75) 32(-14.6,3.25) 33(-14.6,2.75) 34(-14.6,2.25) 35(-14.6,1.75) 36(-14.6,1.25) 37(-14.6,0.75) 38(-14.6,0.25) 39(-14.6,-0.25) 40(-14.6,-0.75) 41(-14.6,-1.25) 42(-14.6,-1.75) 43(-14.6,-2.25) 44(-14.6,-2.75) 45(-14.6,-3.25) 46(-14.6,-3.75) 47(-14.6,-4.25) 48(-14.6,-4.75) 49(-14.6,-5.25) 50(-14.6,-5.75) 51(-14.6,-6.25) 52(-14.6,-6.75) 53(-14.6,-7.25) 54(-14.6,-7.75) 55(-14.6,-8.25) 56(-14.6,-8.75) 57(-14.6,-9.25) 58(-14.6,-9.75) 59(-14.6,-10.25) 60(-14.6,-10.75) 61(-14.6,-11.25) 62(-14.6,-11.75) 63(-14.6,-12.25) 64(-14.6,-12.75) 65(-14.6,-13.25) 66(-14.6,-13.75) 67(-14.6,-14.25) 68(-14.6,-14.75) 69(-14.6,-15.25) 70(-14.6,-15.75) 71(-14.6,-16.25) 72(-14.6,-16.75) 73(-14.6,-17.25) 74(-14.6,-17.75) 75(-14.6,-18.25) 76(-14.6,-18.75) 129(14.6,-18.75) 130(14.6,-18.25) 131(14.6,-17.75) 132(14.6,-17.25) 133(14.6,-16.75) 134(14.6,-16.25) 135(14.6,-15.75) 136(14.6,-15.25) 137(14.6,-14.75) 138(14.6,-14.25) 139(14.6,-13.75) 140(14.6,-13.25) 141(14.6,-12.75) 142(14.6,-12.25) 143(14.6,-11.75) 144(14.6,-11.25) 145(14.6,-10.75) 146(14.6,-10.25) 147(14.6,-9.75) 148(14.6,-9.25) 149(14.6,-8.75) 150(14.6,-8.25) 151(14.6,-7.75) 152(14.6,-7.25) 153(14.6,-6.75) 154(14.6,-6.25) 155(14.6,-5.75) 156(14.6,-5.25) 157(14.6,-4.75) 158(14.6,-4.25) 159(14.6,-3.75) 160(14.6,-3.25) 161(14.6,-2.75) 162(14.6,-2.25) 163(14.6,-1.75) 164(14.6,-1.25) 165(14.6,-0.75) 166(14.6,-0.25) 167(14.6,0.25) 168(14.6,0.75) 169(14.6,1.25) 170(14.6,1.75) 171(14.6,2.25) 172(14.6,2.75) 173(14.6,3.25) 174(14.6,3.75) 175(14.6,4.25) 176(14.6,4.75) 177(14.6,5.25) 178(14.6,5.75) 179(14.6,6.25) 180(14.6,6.75) 181(14.6,7.25) 182(14.6,7.75) 183(14.6,8.25) 184(14.6,8.75) 185(14.6,9.25) 186(14.6,9.75) 187(14.6,10.25) 188(14.6,10.75) 189(14.6,11.25) 190(14.6,11.75) 191(14.6,12.25) 192(14.6,12.75) 193(14.6,13.25) 194(14.6,13.75) 195(14.6,14.25) 196(14.6,14.75) 197(14.6,15.25) 198(14.6,15.75) 199(14.6,16.25) 200(14.6,16.75) 201(14.6,17.25) 202(14.6,17.75) 203(14.6,18.25) 204(14.6,18.75)
  oval 0.3x2.1 smd: 77(-12.75,-20.6) 78(-12.25,-20.6) 79(-11.75,-20.6) 80(-11.25,-20.6) 81(-10.75,-20.6) 82(-10.25,-20.6) 83(-9.75,-20.6) 84(-9.25,-20.6) 85(-8.75,-20.6) 86(-8.25,-20.6) 87(-7.75,-20.6) 88(-7.25,-20.6) 89(-6.75,-20.6) 90(-6.25,-20.6) 91(-5.75,-20.6) 92(-5.25,-20.6) 93(-4.75,-20.6) 94(-4.25,-20.6) 95(-3.75,-20.6) 96(-3.25,-20.6) 97(-2.75,-20.6) 98(-2.25,-20.6) 99(-1.75,-20.6) 100(-1.25,-20.6) 101(-0.75,-20.6) 102(-0.25,-20.6) 103(0.25,-20.6) 104(0.75,-20.6) 105(1.25,-20.6) 106(1.75,-20.6) 107(2.25,-20.6) 108(2.75,-20.6) 109(3.25,-20.6) 110(3.75,-20.6) 111(4.25,-20.6) 112(4.75,-20.6) 113(5.25,-20.6) 114(5.75,-20.6) 115(6.25,-20.6) 116(6.75,-20.6) 117(7.25,-20.6) 118(7.75,-20.6) 119(8.25,-20.6) 120(8.75,-20.6) 121(9.25,-20.6) 122(9.75,-20.6) 123(10.25,-20.6) 124(10.75,-20.6) 125(11.25,-20.6) 126(11.75,-20.6) 127(12.25,-20.6) 128(12.75,-20.6) 205(12.75,20.6) 206(12.25,20.6) 207(11.75,20.6) 208(11.25,20.6) 209(10.75,20.6) 210(10.25,20.6) 211(9.75,20.6) 212(9.25,20.6) 213(8.75,20.6) 214(8.25,20.6) 215(7.75,20.6) 216(7.25,20.6) 217(6.75,20.6) 218(6.25,20.6) 219(5.75,20.6) 220(5.25,20.6) 221(4.75,20.6) 222(4.25,20.6) 223(3.75,20.6) 224(3.25,20.6) 225(2.75,20.6) 226(2.25,20.6) 227(1.75,20.6) 228(1.25,20.6) 229(0.75,20.6) 230(0.25,20.6) 231(-0.25,20.6) 232(-0.75,20.6) 233(-1.25,20.6) 234(-1.75,20.6) 235(-2.25,20.6) 236(-2.75,20.6) 237(-3.25,20.6) 238(-3.75,20.6) 239(-4.25,20.6) 240(-4.75,20.6) 241(-5.25,20.6) 242(-5.75,20.6) 243(-6.25,20.6) 244(-6.75,20.6) 245(-7.25,20.6) 246(-7.75,20.6) 247(-8.25,20.6) 248(-8.75,20.6) 249(-9.25,20.6) 250(-9.75,20.6) 251(-10.25,20.6) 252(-10.75,20.6) 253(-11.25,20.6) 254(-11.75,20.6) 255(-12.25,20.6) 256(-12.75,20.6)
Top Overlay:
  circle w0.6: c-12.15,18.15 r0.3
  circle w0.25: c-14.6,19.45 r0.125
  lines w0.2: -13.15,-19.15 13.15,-19.15 13.15,19.15 -13.15,19.15 -13.15,-19.15
Mechanical 13:
  circle w0.1: c-13.1,19.1 r0.5
  lines w0.1: -14,-20 14,-20 14,20 -14,20 -14,-20
Mechanical 15:
  lines w0.1: -0.5,0 0.5,0 ; 0,-0.5 0,0.5 ; -16.15,-22.15 16.15,-22.15 16.15,22.15 -16.15,22.15 -16.15,-22.15
3D body: height 4.2, standoff 0, extent -14,-20 14,20

## SQFP50P3000X4200-264M [mm] "Shrink QFP, 264-Leads, Body 40x28 mm, Pitch 0.5mm, IPC Low Density"
height 4.2
pads (264):
  oval 2.1x0.3 smd: 1(-14.6,19.25) 2(-14.6,18.75) 3(-14.6,18.25) 4(-14.6,17.75) 5(-14.6,17.25) 6(-14.6,16.75) 7(-14.6,16.25) 8(-14.6,15.75) 9(-14.6,15.25) 10(-14.6,14.75) 11(-14.6,14.25) 12(-14.6,13.75) 13(-14.6,13.25) 14(-14.6,12.75) 15(-14.6,12.25) 16(-14.6,11.75) 17(-14.6,11.25) 18(-14.6,10.75) 19(-14.6,10.25) 20(-14.6,9.75) 21(-14.6,9.25) 22(-14.6,8.75) 23(-14.6,8.25) 24(-14.6,7.75) 25(-14.6,7.25) 26(-14.6,6.75) 27(-14.6,6.25) 28(-14.6,5.75) 29(-14.6,5.25) 30(-14.6,4.75) 31(-14.6,4.25) 32(-14.6,3.75) 33(-14.6,3.25) 34(-14.6,2.75) 35(-14.6,2.25) 36(-14.6,1.75) 37(-14.6,1.25) 38(-14.6,0.75) 39(-14.6,0.25) 40(-14.6,-0.25) 41(-14.6,-0.75) 42(-14.6,-1.25) 43(-14.6,-1.75) 44(-14.6,-2.25) 45(-14.6,-2.75) 46(-14.6,-3.25) 47(-14.6,-3.75) 48(-14.6,-4.25) 49(-14.6,-4.75) 50(-14.6,-5.25) 51(-14.6,-5.75) 52(-14.6,-6.25) 53(-14.6,-6.75) 54(-14.6,-7.25) 55(-14.6,-7.75) 56(-14.6,-8.25) 57(-14.6,-8.75) 58(-14.6,-9.25) 59(-14.6,-9.75) 60(-14.6,-10.25) 61(-14.6,-10.75) 62(-14.6,-11.25) 63(-14.6,-11.75) 64(-14.6,-12.25) 65(-14.6,-12.75) 66(-14.6,-13.25) 67(-14.6,-13.75) 68(-14.6,-14.25) 69(-14.6,-14.75) 70(-14.6,-15.25) 71(-14.6,-15.75) 72(-14.6,-16.25) 73(-14.6,-16.75) 74(-14.6,-17.25) 75(-14.6,-17.75) 76(-14.6,-18.25) 77(-14.6,-18.75) 78(-14.6,-19.25) 133(14.6,-19.25) 134(14.6,-18.75) 135(14.6,-18.25) 136(14.6,-17.75) 137(14.6,-17.25) 138(14.6,-16.75) 139(14.6,-16.25) 140(14.6,-15.75) 141(14.6,-15.25) 142(14.6,-14.75) 143(14.6,-14.25) 144(14.6,-13.75) 145(14.6,-13.25) 146(14.6,-12.75) 147(14.6,-12.25) 148(14.6,-11.75) 149(14.6,-11.25) 150(14.6,-10.75) 151(14.6,-10.25) 152(14.6,-9.75) 153(14.6,-9.25) 154(14.6,-8.75) 155(14.6,-8.25) 156(14.6,-7.75) 157(14.6,-7.25) 158(14.6,-6.75) 159(14.6,-6.25) 160(14.6,-5.75) 161(14.6,-5.25) 162(14.6,-4.75) 163(14.6,-4.25) 164(14.6,-3.75) 165(14.6,-3.25) 166(14.6,-2.75) 167(14.6,-2.25) 168(14.6,-1.75) 169(14.6,-1.25) 170(14.6,-0.75) 171(14.6,-0.25) 172(14.6,0.25) 173(14.6,0.75) 174(14.6,1.25) 175(14.6,1.75) 176(14.6,2.25) 177(14.6,2.75) 178(14.6,3.25) 179(14.6,3.75) 180(14.6,4.25) 181(14.6,4.75) 182(14.6,5.25) 183(14.6,5.75) 184(14.6,6.25) 185(14.6,6.75) 186(14.6,7.25) 187(14.6,7.75) 188(14.6,8.25) 189(14.6,8.75) 190(14.6,9.25) 191(14.6,9.75) 192(14.6,10.25) 193(14.6,10.75) 194(14.6,11.25) 195(14.6,11.75) 196(14.6,12.25) 197(14.6,12.75) 198(14.6,13.25) 199(14.6,13.75) 200(14.6,14.25) 201(14.6,14.75) 202(14.6,15.25) 203(14.6,15.75) 204(14.6,16.25) 205(14.6,16.75) 206(14.6,17.25) 207(14.6,17.75) 208(14.6,18.25) 209(14.6,18.75) 210(14.6,19.25)
  oval 0.3x2.1 smd: 79(-13.25,-20.6) 80(-12.75,-20.6) 81(-12.25,-20.6) 82(-11.75,-20.6) 83(-11.25,-20.6) 84(-10.75,-20.6) 85(-10.25,-20.6) 86(-9.75,-20.6) 87(-9.25,-20.6) 88(-8.75,-20.6) 89(-8.25,-20.6) 90(-7.75,-20.6) 91(-7.25,-20.6) 92(-6.75,-20.6) 93(-6.25,-20.6) 94(-5.75,-20.6) 95(-5.25,-20.6) 96(-4.75,-20.6) 97(-4.25,-20.6) 98(-3.75,-20.6) 99(-3.25,-20.6) 100(-2.75,-20.6) 101(-2.25,-20.6) 102(-1.75,-20.6) 103(-1.25,-20.6) 104(-0.75,-20.6) 105(-0.25,-20.6) 106(0.25,-20.6) 107(0.75,-20.6) 108(1.25,-20.6) 109(1.75,-20.6) 110(2.25,-20.6) 111(2.75,-20.6) 112(3.25,-20.6) 113(3.75,-20.6) 114(4.25,-20.6) 115(4.75,-20.6) 116(5.25,-20.6) 117(5.75,-20.6) 118(6.25,-20.6) 119(6.75,-20.6) 120(7.25,-20.6) 121(7.75,-20.6) 122(8.25,-20.6) 123(8.75,-20.6) 124(9.25,-20.6) 125(9.75,-20.6) 126(10.25,-20.6) 127(10.75,-20.6) 128(11.25,-20.6) 129(11.75,-20.6) 130(12.25,-20.6) 131(12.75,-20.6) 132(13.25,-20.6) 211(13.25,20.6) 212(12.75,20.6) 213(12.25,20.6) 214(11.75,20.6) 215(11.25,20.6) 216(10.75,20.6) 217(10.25,20.6) 218(9.75,20.6) 219(9.25,20.6) 220(8.75,20.6) 221(8.25,20.6) 222(7.75,20.6) 223(7.25,20.6) 224(6.75,20.6) 225(6.25,20.6) 226(5.75,20.6) 227(5.25,20.6) 228(4.75,20.6) 229(4.25,20.6) 230(3.75,20.6) 231(3.25,20.6) 232(2.75,20.6) 233(2.25,20.6) 234(1.75,20.6) 235(1.25,20.6) 236(0.75,20.6) 237(0.25,20.6) 238(-0.25,20.6) 239(-0.75,20.6) 240(-1.25,20.6) 241(-1.75,20.6) 242(-2.25,20.6) 243(-2.75,20.6) 244(-3.25,20.6) 245(-3.75,20.6) 246(-4.25,20.6) 247(-4.75,20.6) 248(-5.25,20.6) 249(-5.75,20.6) 250(-6.25,20.6) 251(-6.75,20.6) 252(-7.25,20.6) 253(-7.75,20.6) 254(-8.25,20.6) 255(-8.75,20.6) 256(-9.25,20.6) 257(-9.75,20.6) 258(-10.25,20.6) 259(-10.75,20.6) 260(-11.25,20.6) 261(-11.75,20.6) 262(-12.25,20.6) 263(-12.75,20.6) 264(-13.25,20.6)
Top Overlay:
  circle w0.6: c-12.15,18.15 r0.3
  circle w0.25: c-14.6,19.95 r0.125
  lines w0.2: -13.15,-19.15 13.15,-19.15 13.15,19.15 -13.15,19.15 -13.15,-19.15
Mechanical 13:
  circle w0.1: c-13.1,19.1 r0.5
  lines w0.1: -14,-20 14,-20 14,20 -14,20 -14,-20
Mechanical 15:
  lines w0.1: -0.5,0 0.5,0 ; 0,-0.5 0,0.5 ; -16.15,-22.15 16.15,-22.15 16.15,22.15 -16.15,22.15 -16.15,-22.15
3D body: height 4.2, standoff 0, extent -14,-20 14,20